# Altium schematic symbol library rpi_adapter.SCHLIB: 5 symbols
Pins are listed as number, name and electrical type; pins without a type are passive.

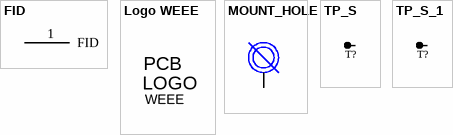
[diagram p0: symbols FID to TP_S_1]

## FID
designator FID?  (no BOM)
Notes: DNP
footprint FID_040
footprint FID-040
pins: 1 FID

## Logo WEEE
designator Logo?, comment WEEE  (no BOM)
WEEE logo; Library Reference: WEEE logo; Lib Reference: WEEE logo; PartNumber: WEEE logo
footprint WEEE_Minimum
text: PCB; LOGO

## MOUNT_HOLE
designator BH?, comment STANDOFF M2.5  (value not drawn)
ROUND STANDOFF M2X0.4 STEEL 1MM; Manufacturer Part Number: 9774010243R; Manufacturer: Würth Elektronik; Supplier Part Number 1: 732-7065-2-ND; Supplier 1: Digi-Key
footprint WE_9774010243R
pins: 1

## TP_S
designator T?  (no BOM)
test point
footprint TP 1mm (1 mm Probe Pad)
pins: 1
2 alternate drawings of the same symbol

## TP_S_1
designator T?, comment TP_S  (value not drawn)  (no BOM)
test point
footprint TP 1mm (1 mm Probe Pad)
pins: 1
2 alternate drawings of the same symbol